# Altium schematic symbol library SCH - POWER - LINEAR VREG - TI LP38691-Q1NGG.SchLib: 1 symbol
Pins are listed as number, name and electrical type; pins without a type are passive.

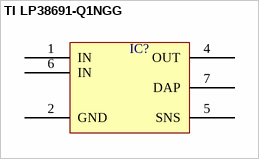
[diagram p0: symbol TI LP38691-Q1NGG]

## TI LP38691-Q1NGG
designator IC?  (value not drawn)
pins: 1 IN, 2 GND, 4 OUT, 5 SNS, 6 IN, 7 DAP